# Altium integrated library 1239AS-H-100M=P2.IntLib: 1 symbol
Pins are listed as number, name and electrical type; pins without a type are passive.

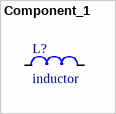
[diagram p0: symbol Component_1]

## Component_1
designator L?, comment inductor
pins: 1, 2